# EAGLE library part INDU6 (library radiotubes)
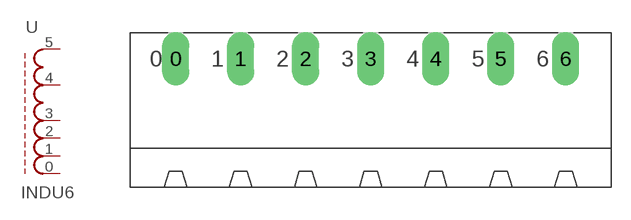
[diagram p102: symbol with the pads of MSTBA7; footprint MSTBA7]

Designator prefix -

## INDU6  [MSTBA7]
0  0  pas
1  1  pas
2  2  pas
3  3  pas
4  4  pas
5  5  pas

## Footprint MSTBA7 (pad centres in mm)
drill 1.397 pad 1.905 long: 0 -15.24,2.54; 1 -10.16,2.54; 2 -5.08,2.54; 3 0,2.54; 4 5.08,2.54; 5 10.16,2.54; 6 15.24,2.54